# Altium footprint library Relays.PcbLib: 5 footprints
Each footprint in its own frame and in the unit in brackets; x right, y up, seen from the top. Pads: shape width x height; smd on the part's side, far side on the other; paste and mask are expansions set on the pad; w line width, h text height; cw(c..) or ccw(c..) is an arc to the next point about the centre after c.
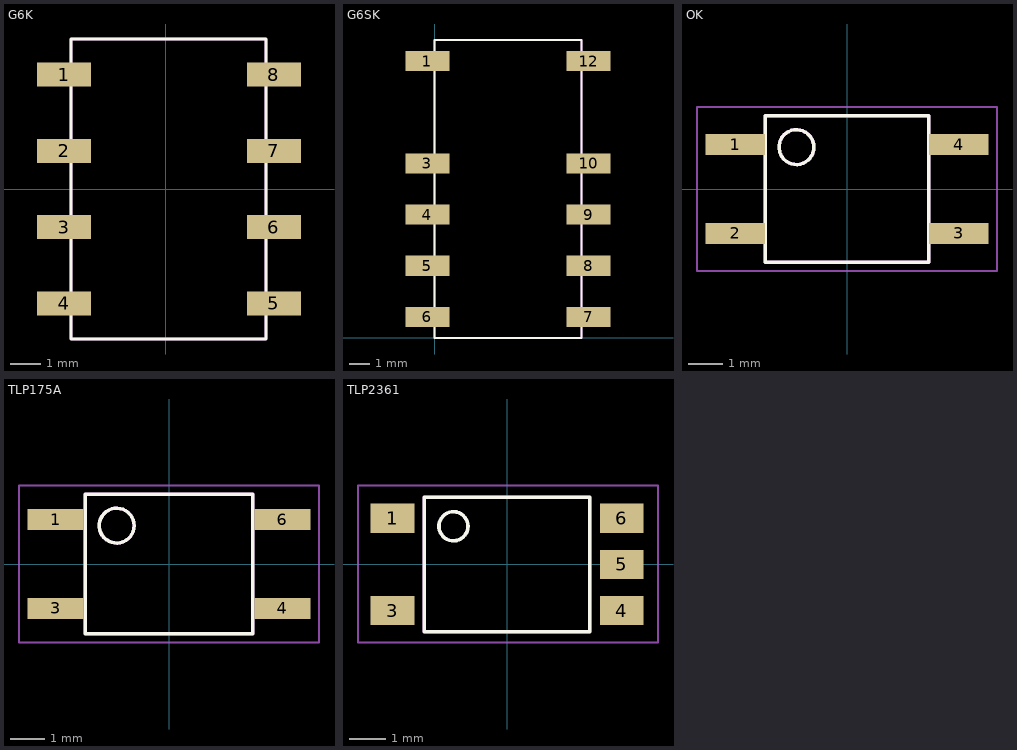
[diagram p0: the footprints below, top view; thin cyan lines are the x and y axes]

## G6K [mm]
pads (8):
  rect 1.8x0.8 smd: 1(-3.386,3.81) 2(-3.386,1.27) 3(-3.386,-1.27) 4(-3.386,-3.81) 5(3.614,-3.81) 6(3.614,-1.27) 7(3.614,1.27) 8(3.614,3.81)
Top Overlay:
  lines w0.1: -3.15,-5 -3.15,5 3.35,5 3.35,-5 -3.15,-5
Mechanical 2:
  lines w0.1: -3.15,-5 -3.15,5 3.35,5 3.35,-5 -3.15,-5
3D body "G6K.step": height 5.2, standoff 0, extent -3.8,-5 4,5

## G6SK [mm]
pads (10):
  rect 2.2x1 smd: 1(-0.35,13.75) 3(-0.35,8.67) 4(-0.35,6.13) 5(-0.35,3.59) 6(-0.35,1.05) 7(7.65,1.05) 8(7.65,3.59) 9(7.65,6.13) 10(7.65,8.67) 12(7.65,13.75)
Top Overlay:
  lines w0.1: 0,0 0,14.8 7.3,14.8 7.3,0 0,0
Mechanical 2:
  lines w0.1: 0,0 0,14.8 7.3,14.8 7.3,0 0,0
3D body "G6SK.step": height 10.35, standoff -0.05, extent -1.056,0.175 8.356,14.675

## OK [mm] "SOP, 4-Leads, Body 3.90x4.40mm, Pitch 2.54mm, IPC Medium Density"
height 2.1
pads (4):
  rect 1.7x0.6 smd: 1(-3.2,1.27) 2(-3.2,-1.27) 3(3.2,-1.27) 4(3.2,1.27)
Top Overlay:
  circle w0.1: c-1.45,1.2 r0.5
  lines w0.1: -2.35,-2.1 -2.35,2.1 2.35,2.1 2.35,-2.1 -2.35,-2.1
Mechanical 2:
  circle w0.1: c-1.45,1.2 r0.5
  lines w0.05: -4.3,-2.35 4.3,-2.35 4.3,2.35 -4.3,2.35 -4.3,-2.35
  lines w0.1: -2.35,-2.1 -2.35,2.1 2.35,2.1 2.35,-2.1 -2.35,-2.1
3D body "SOP4.STEP": height 2.02, standoff -0.02, extent -3.455,-2 3.405,2

## TLP175A [mm] "SOP, 4-Leads, Body 3.75x4.60mm, Pitch 2.54mm, IPC Medium Density"
height 2.2
pads (4):
  rect 1.6x0.6 smd: 1(-3.25,1.27) 3(-3.25,-1.27) 4(3.25,-1.27) 6(3.25,1.27)
Top Overlay:
  circle w0.1: c-1.5,1.1 r0.5
  lines w0.1: -2.4,-2 2.4,-2 2.4,2 -2.4,2 -2.4,-2
Mechanical 2:
  circle w0.1: c-1.5,1.1 r0.5
  lines w0.05: -4.3,-2.25 4.3,-2.25 4.3,2.25 -4.3,2.25 -4.3,-2.25
  lines w0.1: -2.4,-2 -2.4,2 2.4,2 2.4,-2 -2.4,-2
3D body "SOP4.STEP": height 2.02, standoff -0.02, extent -3.43,-2 3.43,2

## TLP2361 [mm]
pads (5):
  rect 1.2x0.8 smd: 1(-3.15,1.27) 3(-3.15,-1.27) 4(3.15,-1.27) 5(3.15,0) 6(3.15,1.27)
Top Overlay:
  circle w0.1: c-1.475,1.05 r0.4
  lines w0.1: -2.275,-1.85 -2.275,1.85 2.275,1.85 2.275,-1.85 -2.275,-1.85
Mechanical 2:
  lines w0.05: -4.1,-2.15 -4.1,2.175 4.15,2.175 4.15,-2.15 -4.1,-2.15
  lines w0.1: -2.275,-1.85 2.275,-1.85 2.275,1.85 -2.275,1.85 -2.275,-1.85
3D body "SOP-5.step": height 2.18, standoff -0.02, extent -3.475,-1.85 3.475,1.85